# EAGLE library part TC74AC04F (library TC74AC04)
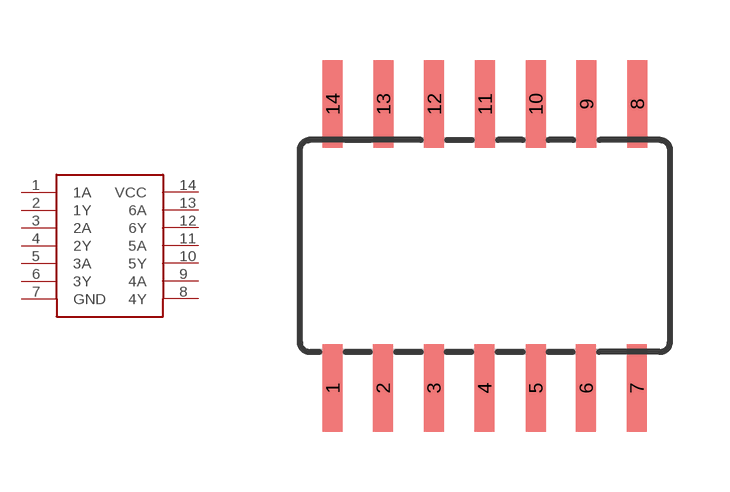
[diagram p0: symbol with the pads of SOP14; footprint SOP14]

Designator prefix -

## TC74AC04F  [SOP14]
1  1A
2  1Y
3  2A
4  2Y
5  3A
6  3Y
7  GND
8  4Y
9  4A
10  5Y
11  5A
12  6Y
13  6A
14  VCC

## Footprint SOP14 (pad centres in mm)
Small Outline Package
smd 0.5 x 2.2: 1 0,-0.375; 2 1.26,-0.375; 3 2.53,-0.375; 4 3.8,-0.375; 5 5.08,-0.375; 6 6.34,-0.375; 7 7.61,-0.375; 8 7.62,6.725; 9 6.35,6.725; 10 5.08,6.725; 11 3.81,6.725; 12 2.54,6.725; 13 1.27,6.725; 14 0,6.725